# Altium schematic symbol library 501876-1040.SchLib: 1 symbol
Pins are listed as number, name and electrical type; pins without a type are passive.

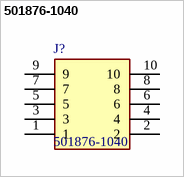
[diagram p0: symbol 501876-1040]

## 501876-1040
designator J?
MOLEX - 501876-1040 - CONNECTOR, HEADER, 10POS, 2ROW, 2MM; Geometry.Height: 8.3mm; Manufacturer_Name: Molex; Manufacturer_Part_Number: 501876-1040; Mouser Part Number: 538-501876-1040; Mouser Price/Stock: https://www.mouser.co.uk/ProductDetail/Molex/501876-1040?qs=AcmJtBVhzkQczlxxv9VM0w%3D%3D; Arrow Part Number: *; Arrow Price/Stock: *; Datasheet Link: http://www.farnell.com/datasheets/2697009.pdf
footprint 5018761040
pins: 1, 2, 3, 4, 5, 6, 7, 8, 9, 10